# Altium footprint library LogoCLB.PcbLib: 4 footprints
Each footprint in its own frame and in the unit in brackets; x right, y up, seen from the top. Pads: shape width x height; smd on the part's side, far side on the other; paste and mask are expansions set on the pad; w line width, h text height; cw(c..) or ccw(c..) is an arc to the next point about the centre after c.
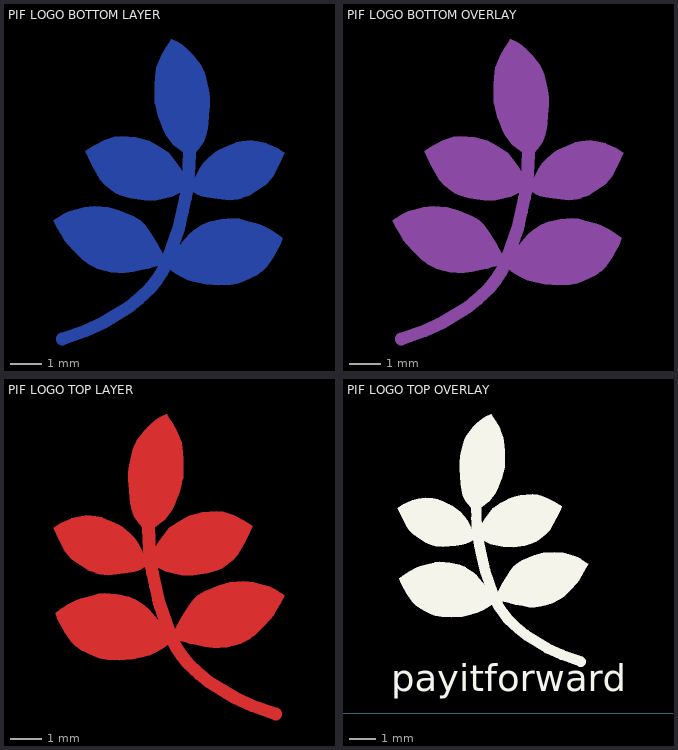
[diagram p0: the footprints below, top view; thin cyan lines are the x and y axes]

## PIF LOGO BOTTOM LAYER [mm]
Bottom Layer:
  region: 6.675,11.669 6.681,11.669 6.861,11.584 6.863,11.583 7.011,11.488 7.012,11.487 7.013,11.486 7.214,11.307 7.214,11.306 7.215,11.306 7.373,11.158 7.373,11.157 7.375,11.156 7.534,10.944 7.619,10.827 7.619,10.826 7.621,10.824 7.694,10.655 7.748,10.528 7.748,10.526 7.748,10.525 7.812,10.24 7.854,10.038 7.854,10.037 7.855,10.037 7.886,9.815 7.886,9.814 7.886,9.813 7.886,9.58 7.886,9.579 7.865,9.25 7.844,8.975 7.843,8.974 7.822,8.847 7.822,8.846 7.78,8.624 7.779,8.624 7.78,8.623 7.753,8.536 7.753,8.535 7.753,8.534 7.681,8.371 7.68,8.37 7.68,8.369 7.588,8.236 7.587,8.235 7.445,8.072 7.444,8.072 7.443,8.07 7.409,8.045 7.41,7.961 7.409,7.958 7.41,7.956 7.407,7.953 7.406,7.949 7.403,7.948 7.402,7.946 7.398,7.946 7.394,7.944 7.392,7.945 7.39,7.945 7.125,8.019 7.123,8.021 7.12,8.021 6.983,8.106 6.982,8.107 6.738,8.297 6.737,8.299 6.735,8.3 6.523,8.575 6.523,8.576 6.522,8.577 6.427,8.747 6.427,8.748 6.426,8.749 6.331,9.003 6.257,9.193 6.257,9.194 6.256,9.195 6.203,9.407 6.15,9.618 6.151,9.62 6.15,9.621 6.139,9.812 6.139,9.813 6.139,10.215 6.139,10.216 6.16,10.459 6.16,10.46 6.192,10.746 6.193,10.748 6.193,10.75 6.267,10.95 6.267,10.951 6.342,11.141 6.343,11.142 6.343,11.144 6.491,11.388 6.492,11.388 6.607,11.557 6.66,11.662 6.664,11.666 6.669,11.67
  region: 4.225,6.344 4.226,6.344 4.66,6.312 4.661,6.311 4.663,6.311 5.001,6.217 5.002,6.216 5.003,6.216 5.459,6.025 5.46,6.025 5.461,6.025 5.682,5.898 5.684,5.896 5.685,5.895 5.812,5.779 5.813,5.777 5.815,5.776 5.92,5.628 5.921,5.628 6.048,5.437 6.26,5.109 6.26,5.108 6.324,4.981 6.398,4.832 6.399,4.829 6.4,4.825 6.4,4.783 6.399,4.78 6.399,4.777 6.275,4.464 6.274,4.463 6.273,4.461 6.272,4.46 6.271,4.458 6.268,4.457 6.266,4.455 6.264,4.455 6.263,4.454 6.071,4.407 5.933,4.365 5.932,4.365 5.731,4.322 5.456,4.269 5.455,4.269 5.211,4.227 5.21,4.227 5.209,4.226 4.976,4.226 4.975,4.227 4.974,4.226 4.742,4.248 4.74,4.248 4.739,4.248 4.56,4.29 4.559,4.291 4.305,4.365 4.304,4.366 4.302,4.366 4.015,4.525 3.866,4.621 3.865,4.623 3.864,4.623 3.567,4.93 3.388,5.12 3.387,5.121 3.27,5.259 3.27,5.261 3.268,5.262 3.184,5.42 3.014,5.716 3.014,5.717 2.93,5.876 2.929,5.881 2.928,5.887 2.928,5.888 2.932,5.892 2.935,5.897 3.231,6.098 3.233,6.098 3.234,6.099 3.424,6.184 3.425,6.184 3.426,6.184 3.67,6.259 3.892,6.322 3.894,6.322 3.895,6.323 4.224,6.344
  region: 9.212,8.44 9.214,8.44 9.468,8.398 9.469,8.398 9.701,8.345 9.703,8.344 9.704,8.344 9.874,8.27 10.043,8.195 10.044,8.194 10.046,8.194 10.257,8.046 10.26,8.041 10.263,8.037 10.263,8.036 10.264,8.035 10.263,8.03 10.263,8.025 10.221,7.941 10.157,7.783 10.157,7.782 10.062,7.592 9.945,7.359 9.944,7.358 9.943,7.356 9.816,7.197 9.816,7.196 9.689,7.048 9.687,7.047 9.686,7.046 9.486,6.897 9.485,6.897 9.188,6.706 9.187,6.706 9.185,6.705 8.931,6.61 8.93,6.61 8.792,6.567 8.79,6.567 8.789,6.567 8.525,6.545 8.523,6.546 8.522,6.545 8.024,6.598 8.023,6.598 7.801,6.63 7.801,6.631 7.8,6.631 7.64,6.673 7.639,6.673 7.512,6.716 7.511,6.717 7.509,6.717 7.33,6.823 7.329,6.825 7.327,6.825 7.326,6.827 7.325,6.827 7.324,6.83 7.322,6.833 7.323,6.835 7.322,6.837 7.322,6.838 7.322,6.839 7.374,7.167 7.376,7.169 7.376,7.172 7.556,7.522 7.557,7.522 7.557,7.523 7.684,7.714 7.686,7.715 7.686,7.716 7.864,7.894 7.865,7.894 7.865,7.895 8.09,8.077 8.091,8.077 8.091,8.078 8.116,8.095 8.117,8.095 8.168,8.127 8.169,8.127 8.222,8.156 8.223,8.157 8.277,8.183 8.278,8.183 8.305,8.195 8.484,8.28 8.485,8.28 8.718,8.376 8.719,8.376 8.721,8.377 8.922,8.419 8.923,8.419 8.924,8.419 9.21,8.441
  region: 8.645,5.964 8.646,5.965 8.848,5.944 8.849,5.943 8.85,5.943 9.041,5.891 9.421,5.795 9.422,5.794 9.424,5.794 9.551,5.742 9.551,5.741 9.552,5.741 9.837,5.593 9.838,5.592 9.839,5.592 10.093,5.423 10.093,5.422 10.094,5.422 10.2,5.337 10.202,5.334 10.205,5.331 10.205,5.329 10.206,5.326 10.205,5.323 10.205,5.319 10.131,5.128 10.13,5.128 10.13,5.127 10.014,4.904 10.013,4.904 9.929,4.746 9.928,4.745 9.928,4.744 9.706,4.426 9.705,4.426 9.704,4.424 9.556,4.276 9.555,4.275 9.554,4.274 9.384,4.157 9.383,4.157 9.382,4.156 9.213,4.071 8.969,3.955 8.968,3.955 8.82,3.892 8.818,3.892 8.816,3.89 8.562,3.848 8.561,3.848 8.56,3.848 8.179,3.837 8.178,3.837 7.776,3.858 7.775,3.859 7.773,3.858 7.467,3.922 7.466,3.922 7.212,3.997 7.211,3.998 7.209,3.998 6.955,4.114 6.954,4.114 6.763,4.231 6.763,4.232 6.762,4.232 6.624,4.338 6.623,4.339 6.622,4.34 6.621,4.342 6.619,4.344 6.619,4.346 6.618,4.349 6.618,4.35 6.617,4.351 6.618,4.353 6.618,4.356 6.82,4.991 6.823,4.995 6.826,5 6.888,5.041 7.119,5.314 7.225,5.441 7.226,5.442 7.227,5.443 7.385,5.58 7.386,5.58 7.387,5.581 7.652,5.751 7.653,5.751 7.654,5.752 7.875,5.858 7.878,5.858 7.879,5.859 8.26,5.933 8.261,5.933 8.262,5.934 8.643,5.965
  region: 5.537,8.544 5.539,8.543 5.541,8.543 5.773,8.48 5.774,8.48 5.943,8.426 5.945,8.425 5.946,8.425 6.126,8.33 6.128,8.328 6.285,8.246 6.285,8.245 6.286,8.245 6.593,8.043 6.595,8.041 6.597,8.04 6.894,7.659 6.894,7.658 6.895,7.657 7.095,7.33 7.095,7.329 7.159,7.224 7.16,7.218 7.161,7.213 7.109,6.863 7.108,6.862 7.108,6.86 7.105,6.857 7.104,6.854 7.103,6.854 7.102,6.853 7.101,6.852 7.099,6.851 6.676,6.65 6.674,6.65 6.673,6.649 6.196,6.543 6.194,6.544 6.193,6.543 5.823,6.532 5.822,6.532 5.82,6.532 5.376,6.596 5.375,6.596 5.373,6.596 5.087,6.681 5.086,6.681 4.906,6.756 4.905,6.757 4.903,6.758 4.776,6.853 4.775,6.853 4.574,7.012 4.573,7.013 4.572,7.014 4.414,7.183 4.413,7.185 4.411,7.186 4.146,7.641 4.146,7.642 4.019,7.907 4.018,7.908 3.945,8.087 3.945,8.092 3.944,8.097 3.945,8.098 3.945,8.1 3.948,8.103 3.951,8.107 4.226,8.287 4.227,8.287 4.228,8.288 4.534,8.446 4.535,8.447 4.536,8.447 4.727,8.511 4.728,8.511 4.876,8.553 4.877,8.553 4.878,8.554 5.069,8.575 5.07,8.575 5.072,8.575
  lines w0.4: 3.205,2.123 3.942,2.385 4.508,2.643 5.334,3.151 5.63,3.394 6.021,3.765 6.202,3.998 6.402,4.294 6.583,4.728 6.9,5.628 6.932,5.765 7.027,6.188 7.122,6.623 7.18,6.877 7.201,7.142 7.222,7.406 7.233,7.639 7.264,8.505
  text "payitforward" at 10.541,0.381 h1.78

## PIF LOGO BOTTOM OVERLAY [mm]
Bottom Overlay:
  drawing of 22 lines, arcs and shapes, not listed
  text "payitforward" at 10.541,0.381 h1.78

## PIF LOGO TOP LAYER [mm]
Top Layer:
  region: 7.528,8.417 7.526,8.416 7.524,8.416 7.291,8.353 7.122,8.299 7.12,8.298 7.119,8.298 6.939,8.203 6.937,8.201 6.78,8.119 6.78,8.118 6.779,8.118 6.472,7.916 6.47,7.914 6.468,7.913 6.171,7.532 6.171,7.531 6.17,7.53 5.97,7.203 5.969,7.202 5.906,7.097 5.905,7.091 5.904,7.086 5.956,6.736 5.957,6.735 5.957,6.733 5.96,6.73 5.961,6.727 5.962,6.727 5.963,6.726 5.964,6.725 5.965,6.724 6.389,6.523 6.391,6.523 6.392,6.522 6.869,6.416 6.87,6.417 6.872,6.416 7.242,6.405 7.243,6.405 7.245,6.405 7.689,6.469 7.69,6.469 7.692,6.469 7.978,6.554 7.979,6.554 8.159,6.629 8.16,6.63 8.162,6.631 8.289,6.726 8.29,6.726 8.491,6.885 8.492,6.886 8.493,6.887 8.651,7.056 8.652,7.058 8.653,7.059 8.918,7.514 8.919,7.514 8.919,7.515 9.046,7.78 9.046,7.781 9.12,7.96 9.12,7.965 9.121,7.97 9.12,7.971 9.12,7.973 9.117,7.976 9.114,7.98 8.839,8.16 8.838,8.16 8.837,8.161 8.531,8.319 8.53,8.32 8.529,8.32 8.338,8.384 8.337,8.384 8.189,8.426 8.188,8.426 8.187,8.427 7.996,8.448 7.995,8.448 7.993,8.448
  region: 8.84,6.217 8.839,6.217 8.405,6.185 8.404,6.184 8.402,6.184 8.064,6.09 8.063,6.089 8.062,6.089 7.606,5.898 7.605,5.898 7.604,5.898 7.383,5.771 7.381,5.769 7.38,5.768 7.253,5.652 7.252,5.65 7.25,5.649 7.145,5.501 7.144,5.501 7.017,5.31 6.805,4.982 6.805,4.981 6.741,4.854 6.667,4.705 6.666,4.702 6.665,4.698 6.665,4.656 6.666,4.653 6.666,4.65 6.79,4.337 6.791,4.336 6.792,4.334 6.793,4.333 6.794,4.331 6.797,4.33 6.799,4.328 6.801,4.328 6.802,4.327 6.994,4.28 7.132,4.238 7.133,4.238 7.334,4.195 7.609,4.142 7.61,4.142 7.853,4.1 7.855,4.1 7.856,4.099 8.089,4.099 8.09,4.1 8.091,4.099 8.323,4.121 8.324,4.121 8.326,4.121 8.505,4.163 8.506,4.164 8.76,4.238 8.761,4.239 8.763,4.239 9.049,4.398 9.05,4.398 9.199,4.494 9.2,4.496 9.201,4.496 9.498,4.803 9.677,4.993 9.678,4.994 9.795,5.132 9.795,5.134 9.797,5.135 9.881,5.293 10.051,5.589 10.051,5.59 10.135,5.749 10.136,5.754 10.137,5.76 10.137,5.761 10.133,5.765 10.13,5.77 9.834,5.971 9.832,5.971 9.831,5.972 9.641,6.057 9.64,6.057 9.639,6.057 9.395,6.132 9.173,6.195 9.171,6.195 9.17,6.196 8.841,6.217
  region: 3.853,8.313 3.851,8.313 3.597,8.271 3.596,8.271 3.364,8.218 3.362,8.217 3.361,8.217 3.191,8.143 3.022,8.068 3.021,8.067 3.019,8.067 2.808,7.919 2.805,7.914 2.801,7.91 2.802,7.909 2.801,7.908 2.802,7.903 2.802,7.898 2.844,7.814 2.908,7.656 2.908,7.655 3.003,7.465 3.12,7.232 3.121,7.231 3.122,7.229 3.249,7.07 3.249,7.069 3.376,6.921 3.378,6.92 3.379,6.919 3.579,6.77 3.58,6.77 3.877,6.579 3.878,6.579 3.88,6.578 4.134,6.483 4.135,6.483 4.273,6.44 4.274,6.44 4.276,6.44 4.54,6.418 4.542,6.419 4.543,6.418 5.041,6.471 5.042,6.471 5.264,6.503 5.264,6.504 5.265,6.504 5.425,6.546 5.426,6.546 5.553,6.589 5.554,6.59 5.556,6.59 5.735,6.696 5.736,6.698 5.738,6.698 5.739,6.7 5.74,6.7 5.741,6.703 5.743,6.706 5.742,6.708 5.743,6.71 5.743,6.711 5.743,6.712 5.69,7.04 5.689,7.042 5.689,7.045 5.509,7.395 5.508,7.395 5.508,7.396 5.381,7.587 5.379,7.588 5.379,7.589 5.201,7.767 5.2,7.767 5.2,7.768 4.975,7.95 4.974,7.95 4.974,7.951 4.949,7.968 4.948,7.968 4.897,8 4.896,8 4.843,8.029 4.842,8.03 4.788,8.056 4.787,8.056 4.76,8.068 4.581,8.153 4.58,8.153 4.347,8.249 4.346,8.249 4.344,8.25 4.143,8.292 4.142,8.292 4.141,8.292 3.855,8.314
  region: 6.39,11.542 6.384,11.542 6.204,11.457 6.203,11.457 6.202,11.456 6.054,11.361 6.053,11.36 6.052,11.359 5.851,11.18 5.851,11.179 5.85,11.179 5.692,11.031 5.691,11.03 5.69,11.029 5.531,10.817 5.446,10.7 5.446,10.699 5.444,10.697 5.371,10.528 5.317,10.401 5.317,10.399 5.316,10.398 5.253,10.113 5.211,9.911 5.211,9.91 5.21,9.91 5.179,9.688 5.179,9.687 5.179,9.686 5.179,9.453 5.179,9.452 5.2,9.123 5.221,8.848 5.222,8.847 5.221,8.847 5.243,8.72 5.243,8.719 5.285,8.497 5.286,8.497 5.285,8.496 5.312,8.409 5.312,8.408 5.312,8.407 5.383,8.244 5.385,8.243 5.385,8.242 5.476,8.109 5.477,8.109 5.478,8.108 5.62,7.945 5.621,7.945 5.622,7.943 5.656,7.918 5.655,7.834 5.656,7.831 5.655,7.829 5.658,7.826 5.659,7.822 5.662,7.821 5.663,7.819 5.667,7.819 5.671,7.817 5.673,7.818 5.675,7.818 5.94,7.892 5.942,7.894 5.945,7.894 6.082,7.979 6.083,7.98 6.327,8.17 6.328,8.172 6.33,8.173 6.542,8.448 6.542,8.449 6.543,8.45 6.638,8.62 6.638,8.621 6.639,8.622 6.734,8.876 6.808,9.066 6.808,9.067 6.809,9.068 6.862,9.28 6.914,9.491 6.914,9.493 6.915,9.494 6.926,9.685 6.926,9.686 6.926,10.088 6.926,10.089 6.905,10.332 6.905,10.333 6.873,10.619 6.872,10.621 6.872,10.623 6.798,10.823 6.798,10.824 6.723,11.014 6.722,11.015 6.722,11.017 6.574,11.261 6.573,11.261 6.458,11.43 6.405,11.535 6.401,11.539 6.396,11.543
  region: 4.42,5.837 4.419,5.838 4.217,5.817 4.216,5.816 4.215,5.816 4.024,5.764 3.644,5.668 3.643,5.667 3.641,5.667 3.514,5.615 3.514,5.614 3.513,5.614 3.228,5.466 3.227,5.465 3.226,5.465 2.972,5.296 2.972,5.295 2.971,5.295 2.865,5.21 2.863,5.207 2.86,5.204 2.86,5.202 2.859,5.199 2.86,5.196 2.86,5.192 2.934,5.001 2.935,5 3.051,4.777 3.136,4.619 3.137,4.618 3.137,4.617 3.359,4.299 3.36,4.299 3.361,4.297 3.509,4.149 3.51,4.148 3.511,4.147 3.681,4.03 3.682,4.03 3.683,4.029 3.852,3.944 4.096,3.828 4.097,3.828 4.245,3.765 4.247,3.765 4.248,3.763 4.502,3.721 4.504,3.721 4.505,3.721 4.886,3.71 4.887,3.71 5.289,3.731 5.29,3.732 5.292,3.731 5.598,3.795 5.599,3.795 5.853,3.87 5.854,3.871 5.856,3.871 6.11,3.987 6.111,3.987 6.302,4.104 6.302,4.105 6.303,4.105 6.441,4.211 6.442,4.212 6.443,4.213 6.444,4.215 6.446,4.217 6.446,4.219 6.447,4.222 6.447,4.223 6.448,4.224 6.447,4.226 6.447,4.229 6.245,4.864 6.242,4.868 6.239,4.873 6.177,4.914 5.946,5.187 5.84,5.314 5.839,5.315 5.838,5.316 5.68,5.453 5.679,5.453 5.678,5.454 5.413,5.624 5.412,5.624 5.411,5.625 5.189,5.731 5.187,5.731 5.186,5.732 4.805,5.806 4.804,5.806 4.803,5.807 4.422,5.838
  lines w0.4: 5.801,8.378 5.832,7.512 5.843,7.279 5.864,7.015 5.885,6.75 5.943,6.496 6.038,6.061 6.133,5.638 6.165,5.501 6.482,4.601 6.662,4.167 6.863,3.871 7.043,3.638 7.435,3.267 7.731,3.024 8.556,2.516 9.123,2.258 9.86,1.996
  text "payitforward" at 2.54,0.508 h1.78

## PIF LOGO TOP OVERLAY [mm]
Top Overlay:
  drawing of 22 lines, arcs and shapes, not listed
  text "payitforward" at 2.54,0.508 h1.78